# Altium integrated library Zynq7000.IntLib: 8 symbols
Pins are listed as number, name and electrical type; pins without a type are passive.

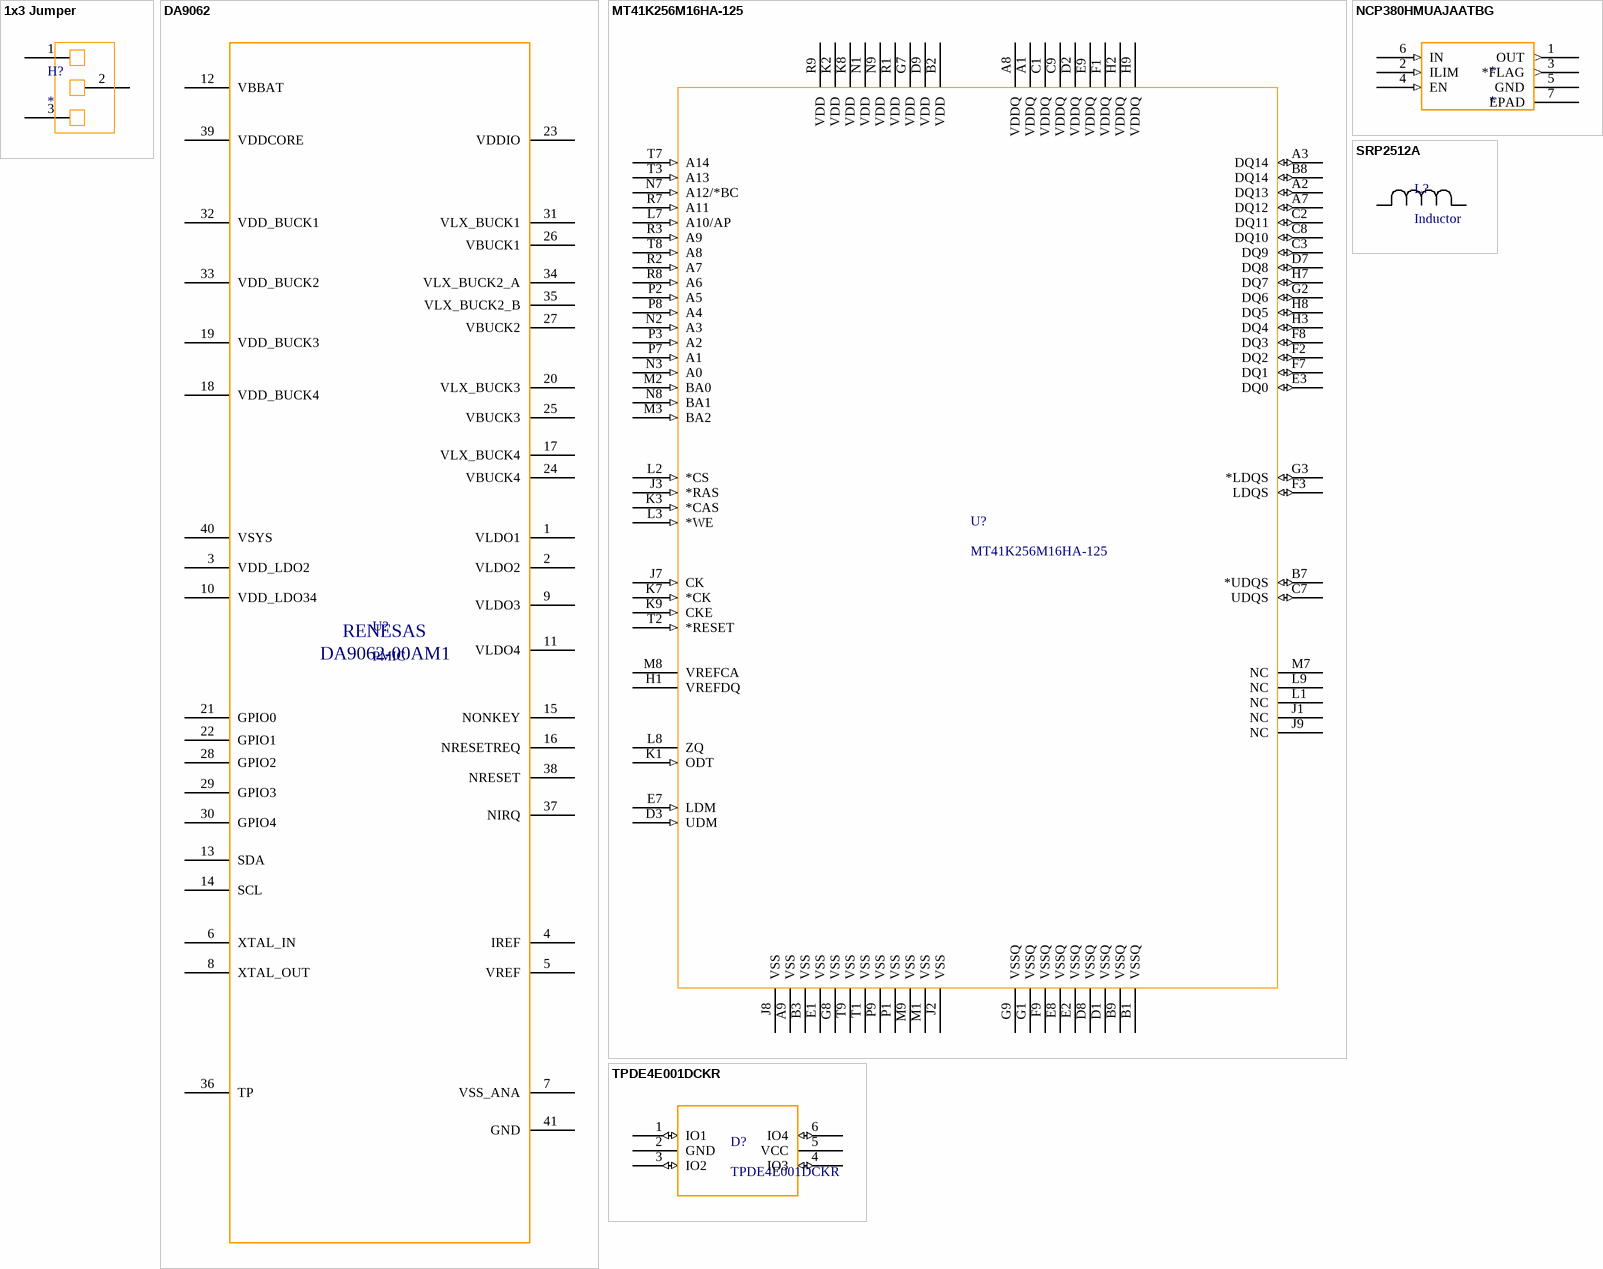
[diagram p0: symbols 1x3 Jumper to TPDE4E001DCKR]

## 1x3 Jumper
designator H?
footprint 1x3 Header
pins: 1, 2, 3

## DA9062
designator U?, comment PMIC  Manufacturer Part Number: DA9062-00AM1  Manufacturer: RENESAS
Designed for Applications Requiring up to 8.5 A
footprint DA9062
pins: 1 VLDO1, 2 VLDO2, 3 VDD_LDO2, 4 IREF, 5 VREF, 6 XTAL_IN, 7 VSS_ANA, 8 XTAL_OUT, 9 VLDO3, 10 VDD_LDO34, 11 VLDO4, 12 VBBAT, 13 SDA, 14 SCL, 15 NONKEY, 16 NRESETREQ, 17 VLX_BUCK4, 18 VDD_BUCK4, 19 VDD_BUCK3, 20 VLX_BUCK3, 21 GPIO0, 22 GPIO1, 23 VDDIO, 24 VBUCK4, 25 VBUCK3, 26 VBUCK1, 27 VBUCK2, 28 GPIO2, 29 GPIO3, 30 GPIO4, 31 VLX_BUCK1, 32 VDD_BUCK1, 33 VDD_BUCK2, 34 VLX_BUCK2_A, 35 VLX_BUCK2_B, 36 TP, 37 NIRQ, 38 NRESET, 39 VDDCORE, 40 VSYS, 41 GND

## MT41K256M16HA-125
designator U?
pins: A1 VDDQ (power), A2 DQ13 (io), A3 DQ14 (io), A7 DQ12 (io), A8 VDDQ (power), A9 VSS (power), B1 VSSQ (power), B2 VDD (power), B3 VSS (power), B7 *UDQS (io), B8 DQ14 (io), B9 VSSQ (power), C1 VDDQ (power), C2 DQ11 (io), C3 DQ9 (io), C7 UDQS (io), C8 DQ10 (io), C9 VDDQ (power), D1 VSSQ (power), D2 VDDQ (power), D3 UDM (in), D7 DQ8 (io), D8 VSSQ (power), D9 VDD (power), E1 VSS (power), E2 VSSQ (power), E3 DQ0 (io), E7 LDM (in), E8 VSSQ (power), E9 VDDQ (power), F1 VDDQ (power), F2 DQ2 (io), F3 LDQS (io), F7 DQ1 (io), F8 DQ3 (io), F9 VSSQ (power), G1 VSSQ (power), G2 DQ6 (io), G3 *LDQS (io), G7 VDD (power), G8 VSS (power), G9 VSSQ (power), H1 VREFDQ (power), H2 VDDQ (power), H3 DQ4 (io), H7 DQ7 (io), H8 DQ5 (io), H9 VDDQ (power), J1 NC, J2 VSS (power), J3 *RAS (in), J7 CK (in), J8 VSS (power), J9 NC, K1 ODT (in), K2 VDD (power), K3 *CAS (in), K7 *CK (in), K8 VDD (power), K9 CKE (in), L1 NC, L2 *CS (in), L3 *WE (in), L7 A10/AP (in), L8 ZQ, L9 NC, M1 VSS (power), M2 BA0 (in), M3 BA2 (in), M7 NC, M8 VREFCA (power), M9 VSS (power), N1 VDD (power), N2 A3 (in), N3 A0 (in), N7 A12/*BC (in), N8 BA1 (in), N9 VDD (power), P1 VSS (power), P2 A5 (in), P3 A2 (in), P7 A1 (in), P8 A4 (in), P9 VSS (power), R1 VDD (power), R2 A7 (in), R3 A9 (in), R7 A11 (in), R8 A6 (in), R9 VDD (power), T1 VSS (power), T2 *RESET (in), T3 A13 (in), T7 A14 (in), T8 A8 (in), T9 VSS (power)

## NCP380HMUAJAATBG
designator *
footprint NCP380HMUAJAATBG
pins: 1 OUT (out), 2 ILIM (in), 3 *FLAG (out), 4 EN (in), 5 GND (power), 6 IN (in), 7 EPAD

## SRP2512A
designator L?, comment Inductor
FIXED IND 1UH 3.5A 49 MOHM SMD; Manufacturer: Bourns; Manufacturer Part Number: SRP2512A-1R0M
footprint SRP2512A
pins: 1, 2

## TPDE4E001DCKR
designator D?
footprint TPDE4E001DCKR
pins: 1 IO1 (io), 2 GND (power), 3 IO2 (io), 4 IO3 (io), 5 VCC (power), 6 IO4 (io)

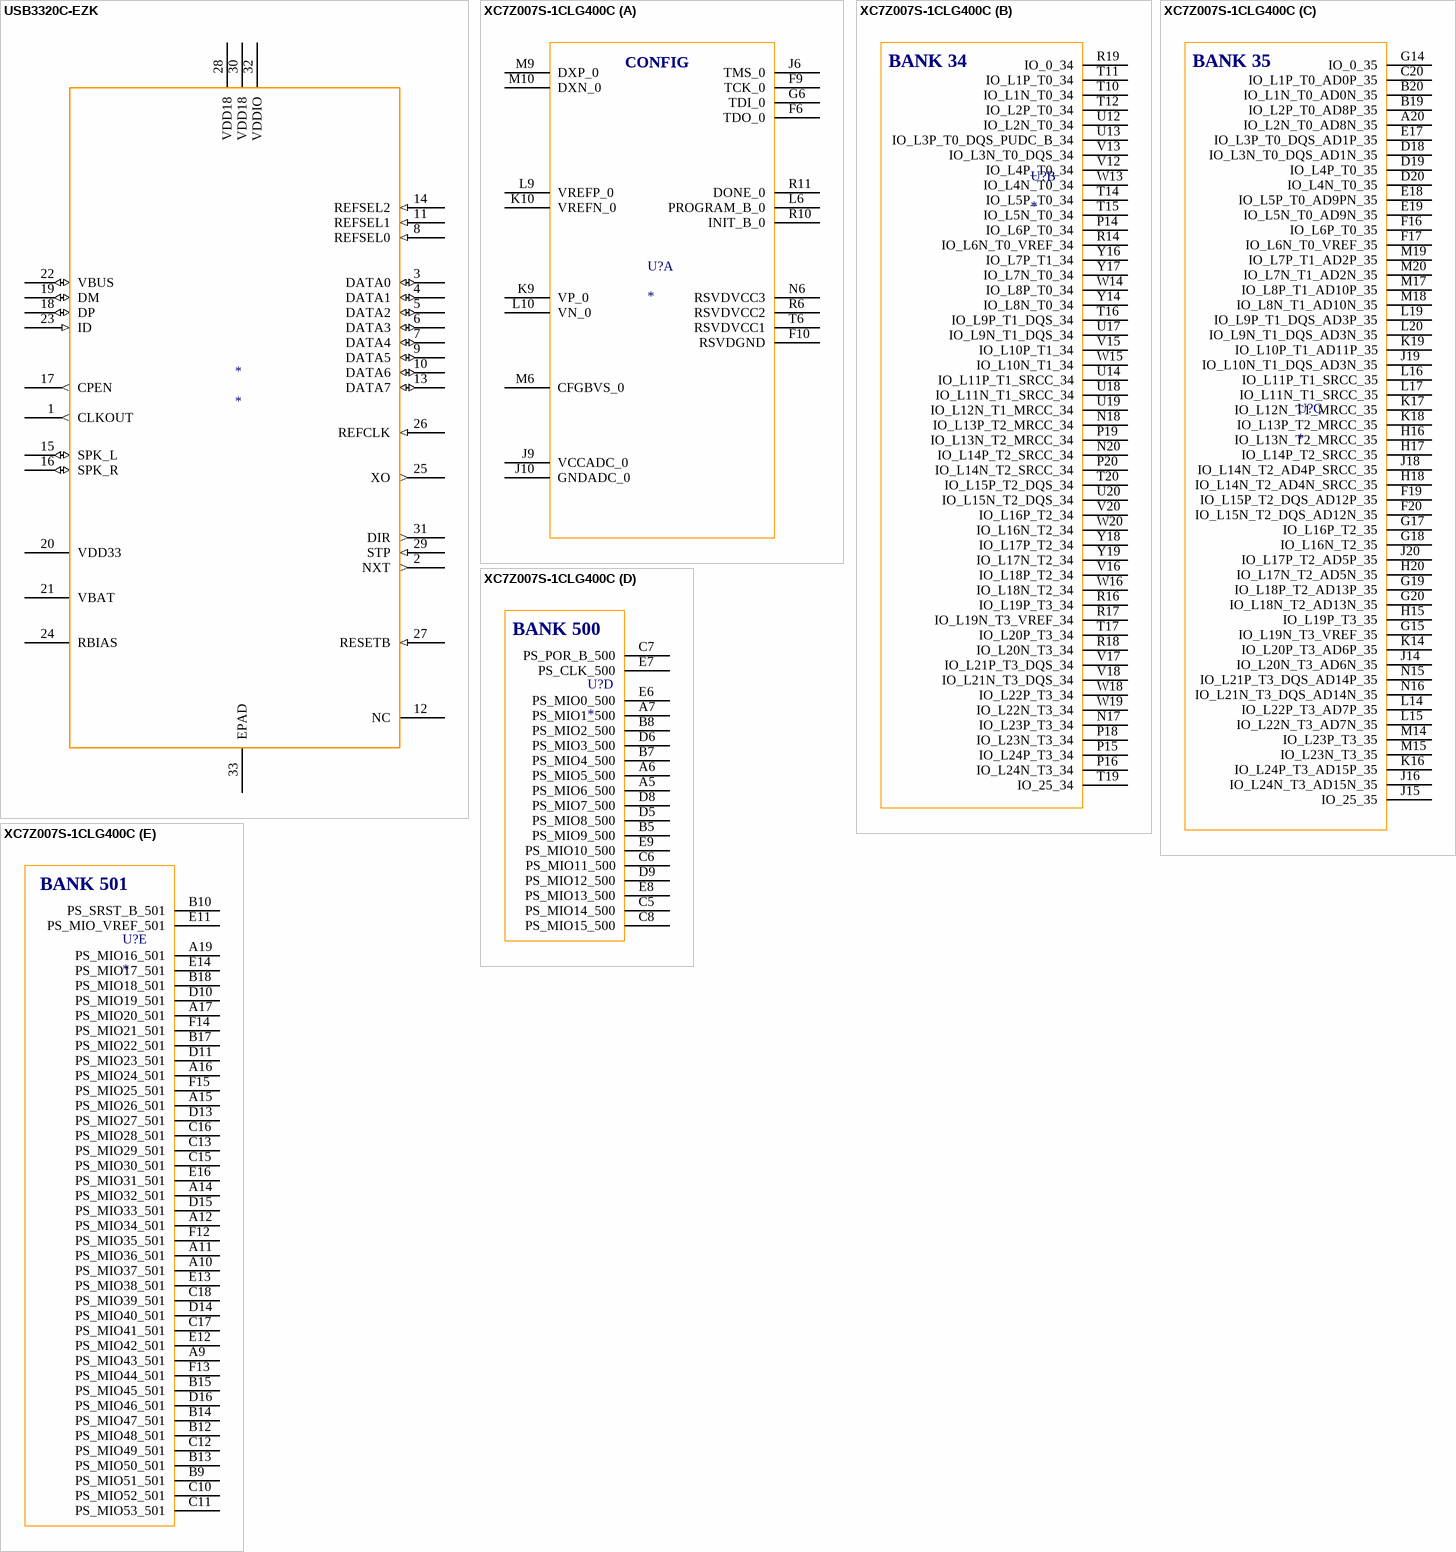
[diagram p1: symbols USB3320C-EZK to XC7Z007S-1CLG400C]

## USB3320C-EZK
designator *
footprint USB3320C-EZK
pins: 1 CLKOUT (out), 2 NXT (out), 3 DATA0 (io), 4 DATA1 (io), 5 DATA2 (io), 6 DATA3 (io), 7 DATA4 (io), 8 REFSEL0 (in), 9 DATA5 (io), 10 DATA6 (io), 11 REFSEL1 (in), 12 NC, 13 DATA7 (io), 14 REFSEL2 (in), 15 SPK_L (io), 16 SPK_R (io), 17 CPEN (out), 18 DP (io), 19 DM (io), 20 VDD33 (power), 21 VBAT (power), 22 VBUS (io), 23 ID (in), 24 RBIAS, 25 XO (out), 26 REFCLK (in), 27 RESETB (in), 28 VDD18 (power), 29 STP (in), 30 VDD18 (power), 31 DIR (out), 32 VDDIO (power), 33 EPAD

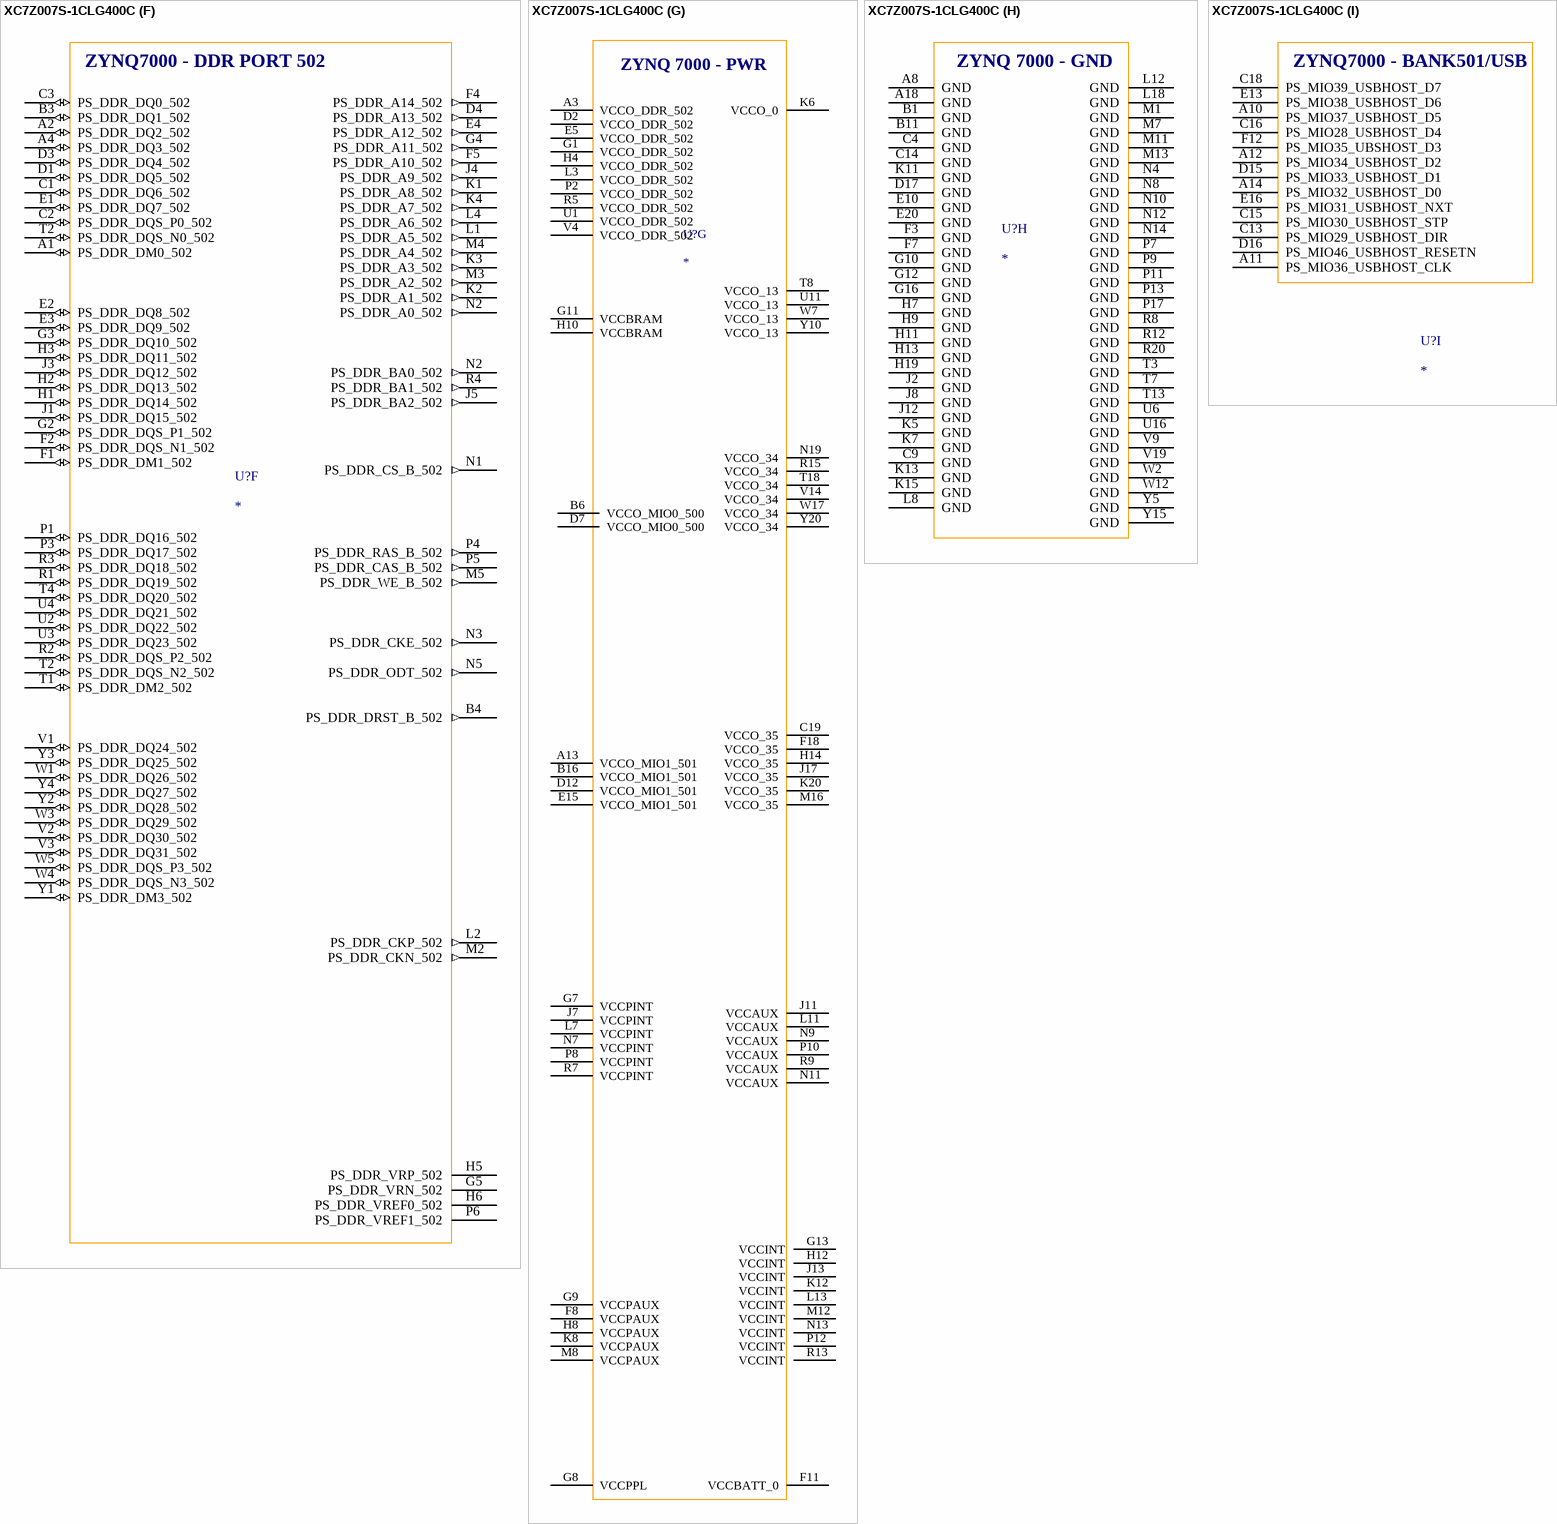
[diagram p2: symbol XC7Z007S-1CLG400C]

## XC7Z007S-1CLG400C
designator U?
No Description Available; Mfr_Name: Xilinx Inc; RefDes: RefDes; Type: Type
footprint CLG400_XIL
part A pins: F6 TDO_0, F9 TCK_0, F10 RSVDGND, G6 TDI_0, J6 TMS_0, J9 VCCADC_0, J10 GNDADC_0, K9 VP_0, K10 VREFN_0, L6 PROGRAM_B_0, L9 VREFP_0, L10 VN_0, M6 CFGBVS_0, M9 DXP_0, M10 DXN_0, N6 RSVDVCC3, R6 RSVDVCC2, R10 INIT_B_0, R11 DONE_0, T6 RSVDVCC1
part B pins: N17 IO_L23P_T3_34, N18 IO_L13P_T2_MRCC_34, N20 IO_L14P_T2_SRCC_34, P14 IO_L6P_T0_34, P15 IO_L24P_T3_34, P16 IO_L24N_T3_34, P18 IO_L23N_T3_34, P19 IO_L13N_T2_MRCC_34, P20 IO_L14N_T2_SRCC_34, R14 IO_L6N_T0_VREF_34, R16 IO_L19P_T3_34, R17 IO_L19N_T3_VREF_34, R18 IO_L20N_T3_34, R19 IO_0_34, T10 IO_L1N_T0_34, T11 IO_L1P_T0_34, T12 IO_L2P_T0_34, T14 IO_L5P_T0_34, T15 IO_L5N_T0_34, T16 IO_L9P_T1_DQS_34, T17 IO_L20P_T3_34, T19 IO_25_34, T20 IO_L15P_T2_DQS_34, U12 IO_L2N_T0_34, U13 IO_L3P_T0_DQS_PUDC_B_34, U14 IO_L11P_T1_SRCC_34, U17 IO_L9N_T1_DQS_34, U18 IO_L11N_T1_SRCC_34, U19 IO_L12N_T1_MRCC_34, U20 IO_L15N_T2_DQS_34, V12 IO_L4P_T0_34, V13 IO_L3N_T0_DQS_34, V15 IO_L10P_T1_34, V16 IO_L18P_T2_34, V17 IO_L21P_T3_DQS_34, V18 IO_L21N_T3_DQS_34, V20 IO_L16P_T2_34, W13 IO_L4N_T0_34, W14 IO_L8P_T0_34, W15 IO_L10N_T1_34, W16 IO_L18N_T2_34, W18 IO_L22P_T3_34, W19 IO_L22N_T3_34, W20 IO_L16N_T2_34, Y14 IO_L8N_T0_34, Y16 IO_L7P_T1_34, Y17 IO_L7N_T0_34, Y18 IO_L17P_T2_34, Y19 IO_L17N_T2_34
part C pins: A20 IO_L2N_T0_AD8N_35, B19 IO_L2P_T0_AD8P_35, B20 IO_L1N_T0_AD0N_35, C20 IO_L1P_T0_AD0P_35, D18 IO_L3N_T0_DQS_AD1N_35, D19 IO_L4P_T0_35, D20 IO_L4N_T0_35, E17 IO_L3P_T0_DQS_AD1P_35, E18 IO_L5P_T0_AD9PN_35, E19 IO_L5N_T0_AD9N_35, F16 IO_L6P_T0_35, F17 IO_L6N_T0_VREF_35, F19 IO_L15P_T2_DQS_AD12P_35, F20 IO_L15N_T2_DQS_AD12N_35, G14 IO_0_35, G15 IO_L19N_T3_VREF_35, G17 IO_L16P_T2_35, G18 IO_L16N_T2_35, G19 IO_L18P_T2_AD13P_35, G20 IO_L18N_T2_AD13N_35, H15 IO_L19P_T3_35, H16 IO_L13N_T2_MRCC_35, H17 IO_L14P_T2_SRCC_35, H18 IO_L14N_T2_AD4N_SRCC_35, H20 IO_L17N_T2_AD5N_35, J14 IO_L20N_T3_AD6N_35, J15 IO_25_35, J16 IO_L24N_T3_AD15N_35, J18 IO_L14N_T2_AD4P_SRCC_35, J19 IO_L10N_T1_DQS_AD3N_35, J20 IO_L17P_T2_AD5P_35, K14 IO_L20P_T3_AD6P_35, K16 IO_L24P_T3_AD15P_35, K17 IO_L12N_T1_MRCC_35, K18 IO_L13P_T2_MRCC_35, K19 IO_L10P_T1_AD11P_35, L14 IO_L22P_T3_AD7P_35, L15 IO_L22N_T3_AD7N_35, L16 IO_L11P_T1_SRCC_35, L17 IO_L11N_T1_SRCC_35, L19 IO_L9P_T1_DQS_AD3P_35, L20 IO_L9N_T1_DQS_AD3N_35, M14 IO_L23P_T3_35, M15 IO_L23N_T3_35, M17 IO_L8P_T1_AD10P_35, M18 IO_L8N_T1_AD10N_35, M19 IO_L7P_T1_AD2P_35, M20 IO_L7N_T1_AD2N_35, N15 IO_L21P_T3_DQS_AD14P_35, N16 IO_L21N_T3_DQS_AD14N_35
part D pins: A5 PS_MIO6_500, A6 PS_MIO5_500, A7 PS_MIO1_500, B5 PS_MIO9_500, B7 PS_MIO4_500, B8 PS_MIO2_500, C5 PS_MIO14_500, C6 PS_MIO11_500, C7 PS_POR_B_500, C8 PS_MIO15_500, D5 PS_MIO8_500, D6 PS_MIO3_500, D8 PS_MIO7_500, D9 PS_MIO12_500, E6 PS_MIO0_500, E7 PS_CLK_500, E8 PS_MIO13_500, E9 PS_MIO10_500
part E pins: A9 PS_MIO43_501, A10 PS_MIO37_501, A11 PS_MIO36_501, A12 PS_MIO34_501, A14 PS_MIO32_501, A15 PS_MIO26_501, A16 PS_MIO24_501, A17 PS_MIO20_501, A19 PS_MIO16_501, B9 PS_MIO51_501, B10 PS_SRST_B_501, B12 PS_MIO48_501, B13 PS_MIO50_501, B14 PS_MIO47_501, B15 PS_MIO45_501, B17 PS_MIO22_501, B18 PS_MIO18_501, C10 PS_MIO52_501, C11 PS_MIO53_501, C12 PS_MIO49_501, C13 PS_MIO29_501, C15 PS_MIO30_501, C16 PS_MIO28_501, C17 PS_MIO41_501, C18 PS_MIO39_501, D10 PS_MIO19_501, D11 PS_MIO23_501, D13 PS_MIO27_501, D14 PS_MIO40_501, D15 PS_MIO33_501, D16 PS_MIO46_501, E11 PS_MIO_VREF_501, E12 PS_MIO42_501, E13 PS_MIO38_501, E14 PS_MIO17_501, E16 PS_MIO31_501, F12 PS_MIO35_501, F13 PS_MIO44_501, F14 PS_MIO21_501, F15 PS_MIO25_501
part F pins: A1 PS_DDR_DM0_502 (io), A2 PS_DDR_DQ2_502 (io), A4 PS_DDR_DQ3_502 (io), B3 PS_DDR_DQ1_502 (io), B4 PS_DDR_DRST_B_502 (out), C1 PS_DDR_DQ6_502 (io), C2 PS_DDR_DQS_P0_502 (io), C3 PS_DDR_DQ0_502 (io), D1 PS_DDR_DQ5_502 (io), D3 PS_DDR_DQ4_502 (io), D4 PS_DDR_A13_502 (out), E1 PS_DDR_DQ7_502 (io), E2 PS_DDR_DQ8_502 (io), E3 PS_DDR_DQ9_502 (io), E4 PS_DDR_A12_502 (out), F1 PS_DDR_DM1_502 (io), F2 PS_DDR_DQS_N1_502 (io), F4 PS_DDR_A14_502 (out), F5 PS_DDR_A10_502 (out), G2 PS_DDR_DQS_P1_502 (io), G3 PS_DDR_DQ10_502 (io), G4 PS_DDR_A11_502 (out), G5 PS_DDR_VRN_502, H1 PS_DDR_DQ14_502 (io), H2 PS_DDR_DQ13_502 (io), H3 PS_DDR_DQ11_502 (io), H5 PS_DDR_VRP_502, H6 PS_DDR_VREF0_502, J1 PS_DDR_DQ15_502 (io), J3 PS_DDR_DQ12_502 (io), J4 PS_DDR_A9_502 (out), J5 PS_DDR_BA2_502 (out), K1 PS_DDR_A8_502 (out), K2 PS_DDR_A1_502 (out), K3 PS_DDR_A3_502 (out), K4 PS_DDR_A7_502 (out), L1 PS_DDR_A5_502 (out), L2 PS_DDR_CKP_502 (out), L4 PS_DDR_A6_502 (out), M2 PS_DDR_CKN_502 (out), M3 PS_DDR_A2_502 (out), M4 PS_DDR_A4_502 (out), M5 PS_DDR_WE_B_502 (out), N1 PS_DDR_CS_B_502 (out), N2 PS_DDR_A0_502 (out), N2 PS_DDR_BA0_502 (out), N3 PS_DDR_CKE_502 (out), N5 PS_DDR_ODT_502 (out), P1 PS_DDR_DQ16_502 (io), P3 PS_DDR_DQ17_502 (io), P4 PS_DDR_RAS_B_502 (out), P5 PS_DDR_CAS_B_502 (out), P6 PS_DDR_VREF1_502, R1 PS_DDR_DQ19_502 (io), R2 PS_DDR_DQS_P2_502 (io), R3 PS_DDR_DQ18_502 (io), R4 PS_DDR_BA1_502 (out), T1 PS_DDR_DM2_502 (io), T2 PS_DDR_DQS_N2_502 (io), T2 PS_DDR_DQS_N0_502 (io), T4 PS_DDR_DQ20_502 (io), U2 PS_DDR_DQ22_502 (io), U3 PS_DDR_DQ23_502 (io), U4 PS_DDR_DQ21_502 (io), V1 PS_DDR_DQ24_502 (io), V2 PS_DDR_DQ30_502 (io), V3 PS_DDR_DQ31_502 (io), W1 PS_DDR_DQ26_502 (io), W3 PS_DDR_DQ29_502 (io), W4 PS_DDR_DQS_N3_502 (io), W5 PS_DDR_DQS_P3_502 (io), Y1 PS_DDR_DM3_502 (io), Y2 PS_DDR_DQ28_502 (io), Y3 PS_DDR_DQ25_502 (io), Y4 PS_DDR_DQ27_502 (io)
part G pins: A3 VCCO_DDR_502, A13 VCCO_MIO1_501, B6 VCCO_MIO0_500, B16 VCCO_MIO1_501, C19 VCCO_35, D2 VCCO_DDR_502, D7 VCCO_MIO0_500, D12 VCCO_MIO1_501, E5 VCCO_DDR_502, E15 VCCO_MIO1_501, F8 VCCPAUX, F11 VCCBATT_0, F18 VCCO_35, G1 VCCO_DDR_502, G7 VCCPINT, G8 VCCPPL, G9 VCCPAUX, G11 VCCBRAM, G13 VCCINT, H4 VCCO_DDR_502, H8 VCCPAUX, H10 VCCBRAM, H12 VCCINT, H14 VCCO_35, J7 VCCPINT, J11 VCCAUX, J13 VCCINT, J17 VCCO_35, K6 VCCO_0, K8 VCCPAUX, K12 VCCINT, K20 VCCO_35, L3 VCCO_DDR_502, L7 VCCPINT, L11 VCCAUX, L13 VCCINT, M8 VCCPAUX, M12 VCCINT, M16 VCCO_35, N7 VCCPINT, N9 VCCAUX, N11 VCCAUX, N13 VCCINT, N19 VCCO_34, P2 VCCO_DDR_502, P8 VCCPINT, P10 VCCAUX, P12 VCCINT, R5 VCCO_DDR_502, R7 VCCPINT, R9 VCCAUX, R13 VCCINT, R15 VCCO_34, T8 VCCO_13, T18 VCCO_34, U1 VCCO_DDR_502, U11 VCCO_13, V4 VCCO_DDR_502, V14 VCCO_34, W7 VCCO_13, W17 VCCO_34, Y10 VCCO_13, Y20 VCCO_34
part H pins: A8 GND, A18 GND, B1 GND, B11 GND, C4 GND, C9 GND, C14 GND, D17 GND, E10 GND, E20 GND, F3 GND, F7 GND, G10 GND, G12 GND, G16 GND, H7 GND, H9 GND, H11 GND, H13 GND, H19 GND, J2 GND, J8 GND, J12 GND, K5 GND, K7 GND, K11 GND, K13 GND, K15 GND, L8 GND, L12 GND, L18 GND, M1 GND, M7 GND, M11 GND, M13 GND, N4 GND, N8 GND, N10 GND, N12 GND, N14 GND, P7 GND, P9 GND, P11 GND, P13 GND, P17 GND, R8 GND, R12 GND, R20 GND, T3 GND, T7 GND, T13 GND, U6 GND, U16 GND, V9 GND, V19 GND, W2 GND, W12 GND, Y5 GND, Y15 GND
part I pins: A10 PS_MIO37_USBHOST_D5, A11 PS_MIO36_USBHOST_CLK, A12 PS_MIO34_USBHOST_D2, A14 PS_MIO32_USBHOST_D0, C13 PS_MIO29_USBHOST_DIR, C15 PS_MIO30_USBHOST_STP, C16 PS_MIO28_USBHOST_D4, C18 PS_MIO39_USBHOST_D7, D15 PS_MIO33_USBHOST_D1, D16 PS_MIO46_USBHOST_RESETN, E13 PS_MIO38_USBHOST_D6, E16 PS_MIO31_USBHOST_NXT, F12 PS_MIO35_UBSHOST_D3
part A text: CONFIG
part B text: BANK 34
part C text: BANK 35
part D text: BANK 500
part E text: BANK 501
part F text: ZYNQ7000 - DDR PORT 502
part G text: ZYNQ 7000 - PWR
part H text: ZYNQ 7000 - GND
part I text: ZYNQ7000 - BANK501/USB